# Altium schematic symbol library Sensor_node.SchLib: 7 symbols
Pins are listed as number, name and electrical type; pins without a type are passive.

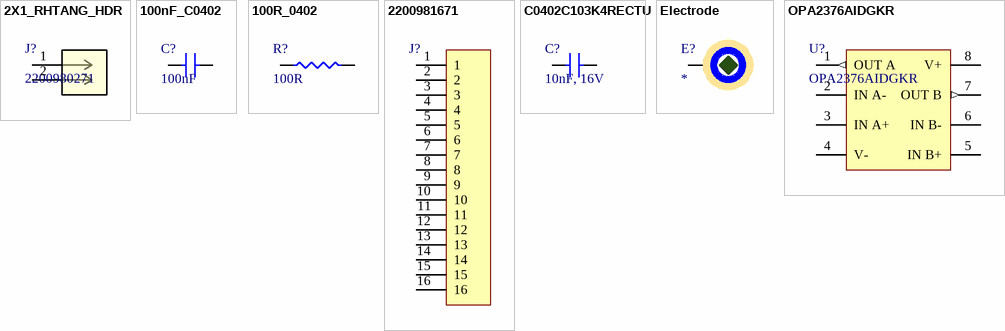
[diagram p0: symbols 2X1_RHTANG_HDR to OPA2376AIDGKR]

## 2X1_RHTANG_HDR
designator J?, comment 2200980271
Molex connector
footprint 2X1_right_angle_THT_CON
pins: 1, 2

## 100nF_C0402
designator C?, comment 100nF
pins: 1, 2

## 100R_0402
designator R?, comment 100R
pins: 1, 2

## 2200981671
designator J?
Connector Header Through Hole, Right Angle 16 position 0.049" (1.25mm); MPN: 2200981671
footprint CONN_2200980000-SD_16_MOL
pins: 1, 2, 3, 4, 5, 6, 7, 8, 9, 10, 11, 12, 13, 14, 15, 16

## C0402C103K4RECTU
designator C?, comment 10nF, 16V
CAP CER 0402 10NF 16V X7R 10%; Manufacturer: Yageo Group; Manufacturer Part Number: C0402C103K4RECTU; Dielectric Material: Ceramic; Supplier: DigiKey; Supplier Part Number: 399-C0402C103K4RECTUCT-ND; RoHS: Compliant; Category: Ceramic Capacitors; Stock: 28317; Pricing: 1=0.14, 10=0.077, 50=0.0532, 100=0.046, 500=0.0338 (USD); Value: 10nF; Case/Package: 0402; China RoHS: Compliant; Dielectric: X7R; Height: 500µm; Length: 1mm; Lifecycle Status: Production; Max Operating Temperature: 125°C; Min Operating Temperature: -55°C; Mounting Technology: Surface Mount; Number of Terminals: 2; REACH SVHC: Yes; Schedule B: 8532240020|8532240020|8532240020|8532240020|8532240020; Voltage Rating (DC): 16V; Width: 500µm; ComponentLink1URL: https://datasheet.octopart.com:443/C0402C103K4RECTU-KEMET-datasheet-178568699.pdf?src-supplier=IHS; ComponentLink1Description: https://datasheet.octopart.com:443/C0402C103K4RECTU-KEMET-datasheet-178568699.pdf?src-supplier=IHS; ComponentLink2URL: https://datasheet.octopart.com:443/C0402C103K4RECTU-KEMET-datasheet-149521613.pdf?src-supplier=Farnell; ComponentLink2Description: https://datasheet.octopart.com:443/C0402C103K4RECTU-KEMET-datasheet-149521613.pdf?src-supplier=Farnell; ComponentLink3URL: https://datasheet.octopart.com:443/C0402C103K4RECTU-KEMET-datasheet-153706760.pdf?src-supplier=Farnell; ComponentLink3Description: https://datasheet.octopart.com:443/C0402C103K4RECTU-KEMET-datasheet-153706760.pdf?src-supplier=Farnell
pins: 1, 2

## Electrode
designator E?
footprint Electrode
pins: 1

## OPA2376AIDGKR
designator U?
IC OPAMP GP 2 CIRCUIT 8VSSOP
footprint OPA2376 (TSOP, 8-Leads, Body 3.1x3.1mm, Pitch 0.65mm, IPC High Density)
pins: 1 OUT A (out), 2 IN A-, 3 IN A+, 4 V- (power), 5 IN B+, 6 IN B-, 7 OUT B (out), 8 V+ (power)